# EAGLE library part AS179-92 (library IC)
Skyworks GaAs IC SPDT Switch 300KHz-3GHz
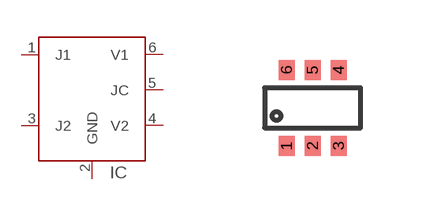
[diagram p169: symbol with the pads of SC70-6L; footprint SC70-6L]

Designator prefix IC

## AS179-92  [SC70-6L]
1  J1
2  GND
3  J2
4  V2
5  JC
6  V1

## Footprint SC70-6L (pad centres in mm)
6-Lead SC70, EIAJ SC88, 1.25mm Wide
smd 0.4 x 0.5: 1 -0.65,-0.95; 2 0,-0.95; 3 0.65,-0.95; 4 0.65,0.95; 5 0,0.953; 6 -0.65,0.95